# Altium schematic symbol library GRM033R71A103KA01D.SchLib: 1 symbol
Pins are listed as number, name and electrical type; pins without a type are passive.

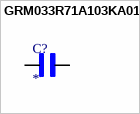
[diagram p0: symbol GRM033R71A103KA01D]

## GRM033R71A103KA01D
designator C?
10000 pF Â±10% 10V Ceramic Capacitor X7R 0201 (0603 Metric); MF: Murata; MP: GRM033R71A103KA01D; SnapEDA_Link: https://www.snapeda.com/parts/GRM033R71A103KA01D/Murata/view-part/?ref=snap; Package: 0603 Murata; Value: *; Check_prices: https://www.snapeda.com/parts/GRM033R71A103KA01D/Murata/view-part/?ref=eda
footprint CAPC0603X33N
pins: 1, 2